# Altium schematic symbol library Schlib1.SchLib: 19 symbols
Pins are listed as number, name and electrical type; pins without a type are passive.

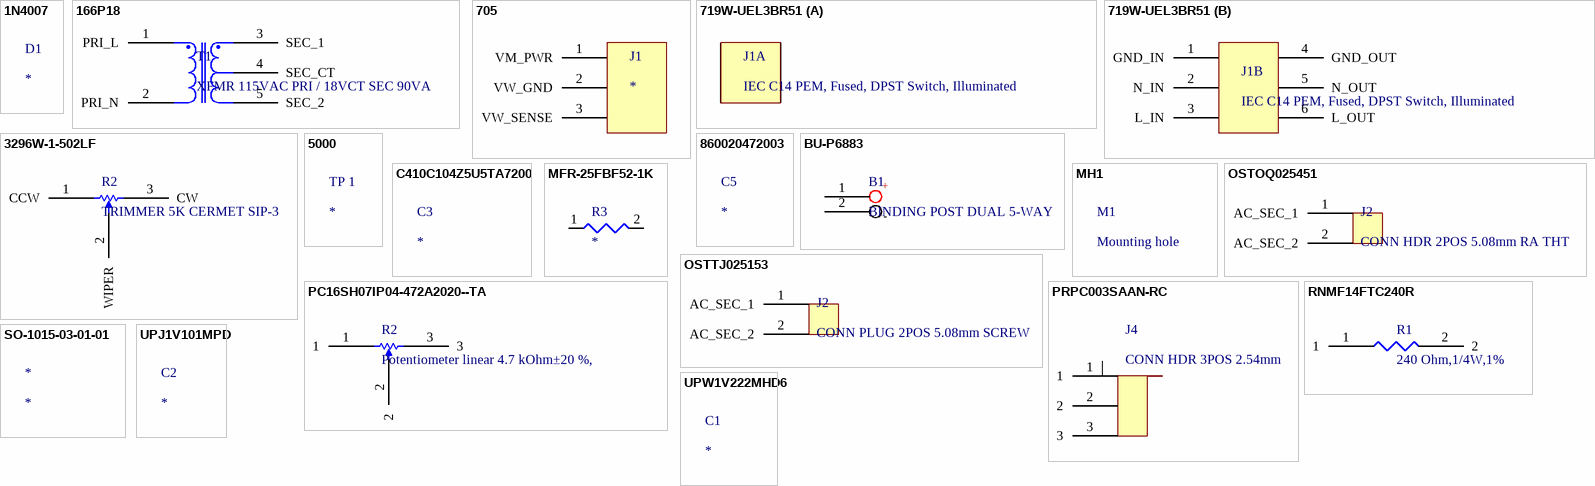
[diagram p0: symbols 1N4007 to UPW1V222MHD6]

## 1N4007
designator D1
Rectifier Diode, 1 Phase, 1 Element, 1A, 1000V V(RRM), Silicon, DO-204AC; Manufacturer: Diotec; Manufacturer Part Number: 1N4007; Manufacturer Lifecycle Status: ACTIVE; Value: 15pF; Element Configuration: Single; Forward Voltage: 1V; Max Forward Surge Current (Ifsm): 30A; Max Junction Temperature (Tj): 175°C; Max Repetitive Reverse Voltage (Vrrm): 1kV; Max Surge Current: 27A; Number of Elements: 1; Peak Reverse Current: 5µA; Polarity: Standard; Reverse Recovery Time: 1.5µs; Supplier: Arrow Electronics; Supplier Part Number: 1N4007; RoHS: Compliant; Category: Rectifier Diodes; Stock: 475000; Pricing: 5000=0.026, 10000=0.0184, 15000=0.0182, 25000=0.0153, 35000=0.0152, 50000=0.0143 (USD); Case/Package: Axial; Export Control Classification Number (ECCN) Code: EAR99; Forward Current: 1A; Height: 2.8mm; Harmonized Tariff Schedule (HTS) Code: 85411000; Introduction Date: 1988-05-01; Lifecycle Status: Production; Max Operating Temperature: 175°C; Max Output current: 1A; Min Operating Temperature: -50°C; Mounting Technology: Axial; Pins: 2; Number of Terminals: 2; Peak Non-Repetitive Surge Current: 30A; REACH SVHC: Unknown; Reverse Standoff Voltage: 1kV; Reverse Voltage: 1kV; Weight: 300mg; ComponentLink1URL: https://datasheet.octopart.com:443/1N4007-Diotec-datasheet-180572013.pdf?src-supplier=IHS; ComponentLink1Description: https://datasheet.octopart.com:443/1N4007-Diotec-datasheet-180572013.pdf?src-supplier=IHS; ComponentLink2URL: https://datasheet.octopart.com:443/1N4007-Diotec-datasheet-180725457.pdf?src-supplier=IHS; ComponentLink2Description: https://datasheet.octopart.com:443/1N4007-Diotec-datasheet-180725457.pdf?src-supplier=IHS; ComponentLink3URL: https://datasheet.octopart.com:443/1N4007-Diotec-datasheet-182232370.pdf?src-supplier=IHS; ComponentLink3Description: https://datasheet.octopart.com:443/1N4007-Diotec-datasheet-182232370.pdf?src-supplier=IHS; ComponentLink4URL: https://datasheet.octopart.com:443/1N4007-Diotec-datasheet-180570705.pdf?src-supplier=IHS; ComponentLink4Description: https://datasheet.octopart.com:443/1N4007-Diotec-datasheet-180570705.pdf?src-supplier=IHS; ComponentLink5URL: https://datasheet.octopart.com:443/1N4007-Diotec-datasheet-62346875.pdf?src-supplier=Burklin+Elektronik; ComponentLink5Description: https://datasheet.octopart.com:443/1N4007-Diotec-datasheet-62346875.pdf?src-supplier=Burklin+Elektronik; ComponentLink6URL: https://datasheet.octopart.com:443/1N4007-Diotec-datasheet-168809440.pdf?src-supplier=Diotec; ComponentLink6Description: https://datasheet.octopart.com:443/1N4007-Diotec-datasheet-168809440.pdf?src-supplier=Diotec; ComponentLink7URL: https://datasheet.octopart.com:443/1N4007-Diotec-datasheet-114842631.pdf?src-supplier=SOS+electronic; ComponentLink7Description: https://datasheet.octopart.com:443/1N4007-Diotec-datasheet-114842631.pdf?src-supplier=SOS+electronic; ComponentLink8URL: https://datasheet.octopart.com:443/1N4007-Galaxy-Semiconductor-datasheet-20771558.pdf?src-supplier=TME; ComponentLink8Description: https://datasheet.octopart.com:443/1N4007-Galaxy-Semiconductor-datasheet-20771558.pdf?src-supplier=TME; ComponentLink9URL: https://datasheet.octopart.com:443/1N4007-Diotec-datasheet-118605333.pdf?src-supplier=TME; ComponentLink9Description: https://datasheet.octopart.com:443/1N4007-Diotec-datasheet-118605333.pdf?src-supplier=TME; ComponentLink10URL: https://datasheet.octopart.com:443/1N4007-Diotec-datasheet-159114366.pdf?src-supplier=TME; ComponentLink10Description: https://datasheet.octopart.com:443/1N4007-Diotec-datasheet-159114366.pdf?src-supplier=TME; ComponentLink11URL: https://datasheet.octopart.com:443/1N4007-Diotec-datasheet-189099566.pdf?src-supplier=Master+Electronics; ComponentLink11Description: https://datasheet.octopart.com:443/1N4007-Diotec-datasheet-189099566.pdf?src-supplier=Master+Electronics

## 166P18
designator T1, comment XFMR 115VAC PRI / 18VCT SEC 90VA
Power transformer, 115VAC primary, 18V center-tapped secondary, 5A, 90VA, chassis mount, wire leads; Manufacturer: Hammond; Manufacturer Part Number: 166P18; Approvals: CSA, UL; Frequency: 60Hz; Isolation Voltage: 2000Vrms; Max Power Dissipation: 90W; Nominal Supply Voltage: 115V; Primary Winding(s): Single; Supplier: Newark; Supplier Part Number: 166P18; RoHS: Compliant; Category: Transformers; Stock: 34; Pricing: 1=44.28, 5=42.04, 10=39.81, 25=37.85, 50=36.92, 100=33.62, 250=32.97 (USD); Current Rating: 5A; Height: 66.802mm; Height - Seated (Max): 66.8mm; Length: 102.362mm; Lifecycle Status: Production; Max Operating Temperature: 130°C; Max Output current: 5A; Min Operating Temperature: 0°C; Mounting Technology: Chassis Mount; Output Current: 5A; Output Voltage: 18V; Packaging: Bulk; Power Rating: 90W; REACH SVHC: Yes; Schedule B: 8504314035; Secondary Winding(s): Single; Termination: Wire Leads; Width: 63.5mm; ComponentLink1URL: https://datasheet.octopart.com:443/166P18-Hammond-datasheet-179918239.pdf?src-supplier=IHS; ComponentLink1Description: https://datasheet.octopart.com:443/166P18-Hammond-datasheet-179918239.pdf?src-supplier=IHS; ComponentLink2URL: https://datasheet.octopart.com:443/166P18-Hammond-datasheet-8450255.pdf?src-supplier=Master+Electronics; ComponentLink2Description: https://datasheet.octopart.com:443/166P18-Hammond-datasheet-8450255.pdf?src-supplier=Master+Electronics; ComponentLink3URL: https://datasheet.octopart.com:443/166P18-Hammond-datasheet-78727889.pdf?src-supplier=Newark; ComponentLink3Description: https://datasheet.octopart.com:443/166P18-Hammond-datasheet-78727889.pdf?src-supplier=Newark; ComponentLink4URL: https://datasheet.octopart.com:443/166P18-Hammond-datasheet-1636.pdf?src-supplier=DigiKey; ComponentLink4Description: https://datasheet.octopart.com:443/166P18-Hammond-datasheet-1636.pdf?src-supplier=DigiKey; ComponentLink5URL: https://datasheet.octopart.com:443/166P18-Hammond-datasheet-154734928.pdf?src-supplier=Electro+Sonic; ComponentLink5Description: https://datasheet.octopart.com:443/166P18-Hammond-datasheet-154734928.pdf?src-supplier=Electro+Sonic; ComponentLink6URL: https://datasheet.octopart.com:443/166P18-Hammond-datasheet-9571880.pdf?src-supplier=RS+(Formerly+Allied+Electronics); ComponentLink6Description: https://datasheet.octopart.com:443/166P18-Hammond-datasheet-9571880.pdf?src-supplier=RS+(Formerly+Allied+Electronics); ComponentLink7URL: https://datasheet.octopart.com:443/166P18-Hammond-datasheet-16756.pdf?src-supplier=RS+(Formerly+Allied+Electronics); ComponentLink7Description: https://datasheet.octopart.com:443/166P18-Hammond-datasheet-16756.pdf?src-supplier=RS+(Formerly+Allied+Electronics); ComponentLink8URL: https://datasheet.octopart.com:443/166P18-Hammond-datasheet-17018915.pdf?src-supplier=Factory+Futures; ComponentLink8Description: https://datasheet.octopart.com:443/166P18-Hammond-datasheet-17018915.pdf?src-supplier=Factory+Futures; ComponentLink9URL: http://sigma.octopart.com:80/conflict_mineral_statement/Hammond-company-48.pdf?src-supplier=Compliance+Statements; ComponentLink9Description: http://sigma.octopart.com:80/conflict_mineral_statement/Hammond-company-48.pdf?src-supplier=Compliance+Statements
pins: 1 PRI_L, 2 PRI_N, 3 SEC_1, 4 SEC_CT, 5 SEC_2

## 705
designator J1
Mini 3-wire Volt Meter, 4.5V to 28V DC power, 0V to 99.9V DC measurement; Manufacturer: Adafruit Industries; Manufacturer Part Number: 705; Number Of Characters Per Row: 3; Supplier: Newark; Supplier Part Number: 705; RoHS: Compliant; Category: Panel Meters; Stock: 34; Pricing: 1=7.95 (USD); Height: 19.05mm; Length: 69.85mm; Mounting Technology: Chassis Mount; Termination: Wire Leads; Weight: 5.443108g; Width: 63.5mm
pins: 1 VM_PWR, 2 VW_GND, 3 VW_SENSE

## 719W-UEL3BR51
designator J1, comment IEC C14 PEM, Fused, DPST Switch, Illuminated
Mains Power Connector; Manufacturer: Qualtek; Manufacturer Part Number: 719W-UEL3BR51; Supplier: DigiKey; Supplier Part Number: 189-719W-UEL3BR51-ND; RoHS: Compliant; Category: Power Connectors; Stock: 363; Pricing: 1=7.66, 10=6.506, 30=6.02, 50=5.8068, 100=5.5296, 250=5.18348, 500=4.93622, 1000=4.70083 (USD); Export Control Classification Number (ECCN) Code: EAR99; Harmonized Tariff Schedule (HTS) Code: 8536.69.40.30; Introduction Date: 2024-04-05; Lifecycle Status: Production
part B pins: 1 GND_IN, 2 N_IN, 3 L_IN, 4 GND_OUT, 5 N_OUT, 6 L_OUT

## 3296W-1-502LF
designator R2, comment TRIMMER 5K CERMET SIP-3
Cermet trimmer potentiometer, 25 turns, 5 kΩ, 0.5 W, THT, on top, 3296W-1-502LF; Manufacturer: Bourns; Insulation Resistance: 1GΩ; Lead Diameter: 510µm; Lead Length: 6.4mm; Max Power Dissipation: 500mW; Number of Turns: 25; Value: 5kΩ; Temperature Coefficient: 100ppm/°C; Tolerance: 10%; Voltage Rating (AC): 300V; Supplier: Arrow Electronics; Supplier Part Number: 3296W-1-502LF; Manufacturer Part Number: 3296W-1-502LF; RoHS: Compliant; Category: Variable Resistors and Potentiometers; Stock: 198; Pricing: 2=1.9574, 10=1.6701, 25=1.482, 50=1.4672, 100=1.4 (USD); China RoHS: Non-Compliant; Color: Blue; Composition: Cermet; Contact Plating: Tin; Depth: 4.83mm; Export Control Classification Number (ECCN) Code: EAR99; Height: 10.03mm; Harmonized Tariff Schedule (HTS) Code: 8533.40.80.50; Introduction Date: 2004-09-13; Lead Free: Lead Free; Length: 9.53mm; Lifecycle Status: Production; Max Operating Temperature: 125°C; Military Standard: Not; Min Operating Temperature: -55°C; Mounting Technology: PCB, Panel, Through Hole; Number of Terminals: 3; Power Rating: 500mW; Radiation Hardening: No; REACH SVHC: No; Schedule B: 8533400080, 8533400080|8533400080|8533400080|8533400080|8533400080; Taper: Linear; Termination: Pin; Voltage Rating (DC): 300V; Weight: 850.485694mg; Width: 4.83mm; Working Voltage: 300V; ComponentLink1URL: https://datasheet.octopart.com:443/3296W-1-502LF-Bourns-datasheet-154325949.pdf?src-supplier=Newark; ComponentLink1Description: https://datasheet.octopart.com:443/3296W-1-502LF-Bourns-datasheet-154325949.pdf?src-supplier=Newark; ComponentLink2URL: https://datasheet.octopart.com:443/3296W-1-502LF-Bourns-datasheet-62345832.pdf?src-supplier=Newark; ComponentLink2Description: https://datasheet.octopart.com:443/3296W-1-502LF-Bourns-datasheet-62345832.pdf?src-supplier=Newark; ComponentLink3URL: https://datasheet.octopart.com:443/3296W-1-502LF-Bourns-datasheet-134530165.pdf?src-supplier=Upverter; ComponentLink3Description: https://datasheet.octopart.com:443/3296W-1-502LF-Bourns-datasheet-134530165.pdf?src-supplier=Upverter; ComponentLink4URL: https://datasheet.octopart.com:443/3296W-1-502LF-Bourns-datasheet-8754025.pdf?src-supplier=Burklin+Elektronik; ComponentLink4Description: https://datasheet.octopart.com:443/3296W-1-502LF-Bourns-datasheet-8754025.pdf?src-supplier=Burklin+Elektronik; ComponentLink5URL: https://datasheet.octopart.com:443/3296W-1-502LF-Bourns-datasheet-170576125.pdf?src-supplier=Burklin+Elektronik; ComponentLink5Description: https://datasheet.octopart.com:443/3296W-1-502LF-Bourns-datasheet-170576125.pdf?src-supplier=Burklin+Elektronik; ComponentLink6URL: https://datasheet.octopart.com:443/3296W-1-502LF-Bourns-datasheet-9257.pdf?src-supplier=Factory+Futures; ComponentLink6Description: https://datasheet.octopart.com:443/3296W-1-502LF-Bourns-datasheet-9257.pdf?src-supplier=Factory+Futures; ComponentLink7URL: https://datasheet.octopart.com:443/3296W-1-502LF-Bourns-datasheet-8458046.pdf?src-supplier=Factory+Futures; ComponentLink7Description: https://datasheet.octopart.com:443/3296W-1-502LF-Bourns-datasheet-8458046.pdf?src-supplier=Factory+Futures; ComponentLink8URL: https://datasheet.octopart.com:443/3296W-1-502LF-Bourns-datasheet-154729564.pdf?src-supplier=Electro+Sonic; ComponentLink8Description: https://datasheet.octopart.com:443/3296W-1-502LF-Bourns-datasheet-154729564.pdf?src-supplier=Electro+Sonic; ComponentLink9URL: https://datasheet.octopart.com:443/3296W-1-502LF-Bourns-datasheet-25360155.pdf?src-supplier=RS+(Formerly+Allied+Electronics); ComponentLink9Description: https://datasheet.octopart.com:443/3296W-1-502LF-Bourns-datasheet-25360155.pdf?src-supplier=RS+(Formerly+Allied+Electronics); ComponentLink10URL: https://datasheet.octopart.com:443/3296W-1-502LF-Bourns-datasheet-47378.pdf?src-supplier=RS+(Formerly+Allied+Electronics); ComponentLink10Description: https://datasheet.octopart.com:443/3296W-1-502LF-Bourns-datasheet-47378.pdf?src-supplier=RS+(Formerly+Allied+Electronics); ComponentLink11URL: https://datasheet.octopart.com:443/3296W-1-502LF-Bourns-datasheet-8359740.pdf?src-supplier=_legacy+Avnet; ComponentLink11Description: https://datasheet.octopart.com:443/3296W-1-502LF-Bourns-datasheet-8359740.pdf?src-supplier=_legacy+Avnet; ComponentLink12URL: https://datasheet.octopart.com:443/3296W-1-502LF-Bourns-datasheet-14175298.pdf?src-supplier=iiiC; ComponentLink12Description: https://datasheet.octopart.com:443/3296W-1-502LF-Bourns-datasheet-14175298.pdf?src-supplier=iiiC; ComponentLink13URL: https://datasheet.octopart.com:443/3296W-1-502LF-Bourns-datasheet-7276830.pdf?src-supplier=Jameco+(USA); ComponentLink13Description: https://datasheet.octopart.com:443/3296W-1-502LF-Bourns-datasheet-7276830.pdf?src-supplier=Jameco+(USA); ComponentLink14URL: https://datasheet.octopart.com:443/3296W-1-502LF-Bourns-datasheet-6152.pdf?src-supplier=Farnell; ComponentLink14Description: https://datasheet.octopart.com:443/3296W-1-502LF-Bourns-datasheet-6152.pdf?src-supplier=Farnell; ComponentLink15URL: https://datasheet.octopart.com:443/3296W-1-502LF-Bourns-datasheet-528316.pdf?src-supplier=Farnell; ComponentLink15Description: https://datasheet.octopart.com:443/3296W-1-502LF-Bourns-datasheet-528316.pdf?src-supplier=Farnell; ComponentLink16URL: http://sigma.octopart.com:80/conflict_mineral_statement/Bourns-company-36.pdf?src-supplier=Compliance+Statements; ComponentLink16Description: http://sigma.octopart.com:80/conflict_mineral_statement/Bourns-company-36.pdf?src-supplier=Compliance+Statements
pins: 1 CCW, 2 WIPER, 3 CW

## 5000
designator TP 1
Test Point, Mini, Thm, Pc, .300 L, .100 Od, Heat Resistant Nylon 46, Red; Manufacturer: Keystone; Manufacturer Part Number: 5000; Body Material: Bronze, PBT; Hole Diameter: 1.6mm; Inside Diameter: 1.27mm; Insulation: Insulated; Number of Contacts: 1; Outside Diameter: 2.54mm; Plating: Silver; Supplier: Future Electronics; Supplier Part Number: 5000; RoHS: Compliant; Category: Test Points; Stock: 87048; Pricing: 150=0.147, 300=0.145, 750=0.143, 1500=0.141, 3000=0.136 (USD); Color: Red; Contact Material: Silver; Contact Plating: Silver; Flammability Rating: UL94 V-0; Height: 4.72mm; Housing Color: Red; Lead Free: Lead Free; Length: 7.62mm; Lifecycle Status: Production; Material: Bronze, Nylon, Silver; Mounting Technology: PCB, Through Hole; Number of Ports: 1; Orientation: Straight; Packaging: Bulk; REACH SVHC: Yes; ComponentLink1URL: https://datasheet.octopart.com:443/5000-Keystone-datasheet-138896739.pdf?src-supplier=Upverter; ComponentLink1Description: https://datasheet.octopart.com:443/5000-Keystone-datasheet-138896739.pdf?src-supplier=Upverter; ComponentLink2URL: https://datasheet.octopart.com:443/5000-Keystone-datasheet-15716159.pdf?src-supplier=IHS; ComponentLink2Description: https://datasheet.octopart.com:443/5000-Keystone-datasheet-15716159.pdf?src-supplier=IHS; ComponentLink3URL: https://datasheet.octopart.com:443/5000-Keystone-datasheet-9590016.pdf?src-supplier=Sager+Electronics; ComponentLink3Description: https://datasheet.octopart.com:443/5000-Keystone-datasheet-9590016.pdf?src-supplier=Sager+Electronics; ComponentLink4URL: https://datasheet.octopart.com:443/5000-Keystone-datasheet-23674.pdf?src-supplier=SOS+electronic; ComponentLink4Description: https://datasheet.octopart.com:443/5000-Keystone-datasheet-23674.pdf?src-supplier=SOS+electronic; ComponentLink5URL: https://datasheet.octopart.com:443/5000-Keystone-datasheet-549598.pdf?src-supplier=Farnell; ComponentLink5Description: https://datasheet.octopart.com:443/5000-Keystone-datasheet-549598.pdf?src-supplier=Farnell; ComponentLink6URL: https://datasheet.octopart.com:443/5000-Keystone-datasheet-60278094.pdf?src-supplier=Future+Electronics; ComponentLink6Description: https://datasheet.octopart.com:443/5000-Keystone-datasheet-60278094.pdf?src-supplier=Future+Electronics; ComponentLink7URL: https://datasheet.octopart.com:443/5000-Keystone-datasheet-542585.pdf?src-supplier=Future+Electronics; ComponentLink7Description: https://datasheet.octopart.com:443/5000-Keystone-datasheet-542585.pdf?src-supplier=Future+Electronics; ComponentLink8URL: https://datasheet.octopart.com:443/5000-Keystone-datasheet-10925273.pdf?src-supplier=Factory+Futures; ComponentLink8Description: https://datasheet.octopart.com:443/5000-Keystone-datasheet-10925273.pdf?src-supplier=Factory+Futures; ComponentLink9URL: https://datasheet.octopart.com:443/5000-Keystone-datasheet-15983577.pdf?src-supplier=element14+APAC; ComponentLink9Description: https://datasheet.octopart.com:443/5000-Keystone-datasheet-15983577.pdf?src-supplier=element14+APAC; ComponentLink10URL: https://datasheet.octopart.com:443/5000-Keystone-datasheet-6528.pdf?src-supplier=RS+(Formerly+Allied+Electronics); ComponentLink10Description: https://datasheet.octopart.com:443/5000-Keystone-datasheet-6528.pdf?src-supplier=RS+(Formerly+Allied+Electronics)

## 860020472003
designator C5
WCAP-ATG5 Aluminum Electrolytic Capacitors; Manufacturer: Wurth Elektronik; Manufacturer Part Number: 860020472003; Manufacturer Lifecycle Status: ACTIVE; Value: 10µF; Leakage Current: 3µA; Life (Hours): 2000hours; Pitch: 2mm; Polarity: Polar; Ripple Current: 38mA; Tolerance: 20%; Voltage Rating: 25V; YEOL: 1 = Estimated lifetime > 10 years; Supplier: Newark; Supplier Part Number: 860020472003; RoHS: Compliant; Category: Aluminum Electrolytic Capacitors; Stock: 1675; Pricing: 5=0.147, 10=0.14, 25=0.132, 50=0.123, 100=0.11, 500=0.088, 1000=0.086 (USD); Case/Package: Radial; Diameter: 5mm; Height - Seated (Max): 12.4968mm; Lead Pitch: 2.0066mm; Length: 11mm; Lifecycle Status: Production; Max Operating Temperature: 105°C; Min Operating Temperature: -40°C; Mounting Technology: Through Hole; Packaging: Tape & Box (TB); ComponentLink1URL: https://datasheet.octopart.com:443/860020472003-W%C3%BCrth-Elektronik-datasheet-111089628.pdf?src-supplier=Newark; ComponentLink1Description: https://datasheet.octopart.com:443/860020472003-W%C3%BCrth-Elektronik-datasheet-111089628.pdf?src-supplier=Newark

## BU-P6883
designator B1, comment BINDING POST DUAL 5-WAY
pins: 1 V_OUT_POS, 2 V_OUT_NEG
text: +; -

## C410C104Z5U5TA7200
designator C3
Multilayer Ceramic Capacitor, 0.1 uF, 50 V, -20%, +80%, Z5U, Axial Leaded; Manufacturer: Yageo Group; Manufacturer Part Number: C410C104Z5U5TA7200; Value: 100nF; Dissipation Factor: 4%; Lead Diameter: 510µm; Tolerance: 80%; Voltage Rating: 50V; Supplier: DigiKey; Supplier Part Number: 399-C410C104Z5U5TA7200CT-ND; RoHS: Compliant; Category: Ceramic Capacitors; Stock: 142749; Pricing: 1=0.26, 10=0.151, 50=0.1092, 100=0.0963, 500=0.0745, 1000=0.06779, 2500=0.06072 (USD); Case/Package: Dipped; China RoHS: Compliant; Diameter: 2.41mm; Dielectric: Z5U; Dielectric Material: Ceramic; Export Control Classification Number (ECCN) Code: EAR99; Harmonized Tariff Schedule (HTS) Code: 8532.24.00.40; Introduction Date: 2006-05-17; Length: 4.32mm; Lifecycle Status: Production; Max Operating Temperature: 85°C; Min Operating Temperature: 10°C; Mounting Technology: Through Hole; Number of Terminals: 2; Radiation Hardening: No; REACH SVHC: Yes; Termination: Axial; Voltage Rating (DC): 50V; ComponentLink1URL: https://datasheet.octopart.com:443/C410C104Z5U5TA7200-KEMET-datasheet-182049697.pdf?src-supplier=IHS; ComponentLink1Description: https://datasheet.octopart.com:443/C410C104Z5U5TA7200-KEMET-datasheet-182049697.pdf?src-supplier=IHS; ComponentLink2URL: https://datasheet.octopart.com:443/C410C104Z5U5TA7200-KEMET-datasheet-7833651.pdf?src-supplier=Electro+Sonic; ComponentLink2Description: https://datasheet.octopart.com:443/C410C104Z5U5TA7200-KEMET-datasheet-7833651.pdf?src-supplier=Electro+Sonic
footprint C410C104Z5U5TA7200 (0.1 µF -20%, +80% 50V Ceramic Capacitor Z5U Axialpp)

## MFR-25FBF52-1K
designator R3
RES 1K OHM 1% 1/4W AXIAL / 1 kOhms ±1% 0.25W, 1/4W Through Hole Resistor Axial Metal Film; Manufacturer: Yageo Group; Manufacturer Part Number: MFR-25FBF52-1K; Lead Diameter: 550µm; Lead Length: 28mm; Max Power Dissipation: 250mW; Value: 1kΩ; Temperature Coefficient: 100ppm/°C; Voltage Rating: 250V; Voltage Rating (DC): 200V; Supplier: Avnet; Supplier Part Number: MFR-25FBF52-1K; RoHS: Compliant; Category: Through-Hole Resistors; Stock: 9577; Pricing: 1=0.098, 2=0.03803, 4=0.03783, 8=0.03764, 16=0.02496 (USD); Case/Package: Axial; China RoHS: Compliant; Composition: Metal Film; Country of Origin: Mainland China; Diameter: 2.4mm; Export Control Classification Number (ECCN) Code: EAR99; Harmonized Tariff Schedule (HTS) Code: 8533.21.00.90; Introduction Date: 2010-12-31; Lead Free: Lead Free; Length: 6.3mm; Lifecycle Status: Production; Max Operating Temperature: 155°C; Min Operating Temperature: -55°C; Mounting Technology: Through Hole; Pins: 2; Number of Terminals: 2; Number of Terminations: 2; Packaging: Bulk; Power Rating: 250mW; Ratings: AEC-Q200; REACH SVHC: Yes; Schedule B: 8533210090, 8533210090|8533210090|8533210090|8533210090|8533210090|8533210090|8533210090|8533210090|8533210090|8533210090|8533210090|8533210090|8533210090|8533210090|8533210090|8533210090|8533210090|8533210090|8533210090|8533210090|8533210090|8533210090|8533210090|85; Termination: Axial; Tolerance: 1%; Width: 6.3mm; Working Voltage: 250V; ComponentLink1URL: https://datasheet.octopart.com:443/MFR-25FBF52-1K-Yageo-datasheet-175665672.pdf?src-supplier=element14+APAC; ComponentLink1Description: https://datasheet.octopart.com:443/MFR-25FBF52-1K-Yageo-datasheet-175665672.pdf?src-supplier=element14+APAC; ComponentLink2URL: https://datasheet.octopart.com/MFR-25FBF52-1K-Yageo-datasheet-28066692.pdf; ComponentLink2Description: https://datasheet.octopart.com/MFR-25FBF52-1K-Yageo-datasheet-28066692.pdf; ComponentLink3URL: https://datasheet.octopart.com:443/MFR-25FBF52-1K-Yageo-datasheet-12510115.pdf?src-supplier=Upverter; ComponentLink3Description: https://datasheet.octopart.com:443/MFR-25FBF52-1K-Yageo-datasheet-12510115.pdf?src-supplier=Upverter; ComponentLink4URL: https://datasheet.octopart.com:443/MFR-25FBF52-1K-Yageo-Group-datasheet-178445897.pdf?src-supplier=Future+Electronics; ComponentLink4Description: https://datasheet.octopart.com:443/MFR-25FBF52-1K-Yageo-Group-datasheet-178445897.pdf?src-supplier=Future+Electronics; ComponentLink5URL: https://datasheet.octopart.com:443/MFR-25FBF52-1K-Yageo-datasheet-165493774.pdf?src-supplier=Future+Electronics; ComponentLink5Description: https://datasheet.octopart.com:443/MFR-25FBF52-1K-Yageo-datasheet-165493774.pdf?src-supplier=Future+Electronics; ComponentLink6URL: https://datasheet.octopart.com:443/MFR-25FBF52-1K-Yageo-datasheet-155367622.pdf?src-supplier=Future+Electronics; ComponentLink6Description: https://datasheet.octopart.com:443/MFR-25FBF52-1K-Yageo-datasheet-155367622.pdf?src-supplier=Future+Electronics; ComponentLink7URL: https://datasheet.octopart.com:443/MFR-25FBF52-1K-Yageo-datasheet-17233670.pdf?src-supplier=Future+Electronics; ComponentLink7Description: https://datasheet.octopart.com:443/MFR-25FBF52-1K-Yageo-datasheet-17233670.pdf?src-supplier=Future+Electronics; ComponentLink8URL: https://datasheet.octopart.com:443/MFR-25FBF52-1K-Yageo-datasheet-137700554.pdf?src-supplier=Future+Electronics; ComponentLink8Description: https://datasheet.octopart.com:443/MFR-25FBF52-1K-Yageo-datasheet-137700554.pdf?src-supplier=Future+Electronics; ComponentLink9URL: http://sigma.octopart.com:80/conflict_mineral_statement/Yageo-company-3.pdf?src-supplier=Compliance+Statements; ComponentLink9Description: http://sigma.octopart.com:80/conflict_mineral_statement/Yageo-company-3.pdf?src-supplier=Compliance+Statements; ComponentLink10URL: http://sigma.octopart.com:80/rohs_statement/Yageo-company-2.pdf?src-supplier=Compliance+Statements; ComponentLink10Description: http://sigma.octopart.com:80/rohs_statement/Yageo-company-2.pdf?src-supplier=Compliance+Statements
footprint pp (240 Ohm resistor, 1/4W, 1%)
pins: 1, 2

## MH1
designator M1, comment Mounting hole
Mounting hole, 114mil diameter

## OSTOQ025451
designator J2, comment CONN HDR 2POS 5.08mm RA THT
2-position, 5.08mm pitch, shrouded, right-angle, through-hole header
footprint OSTOQ025451 (Header)
pins: 1 AC_SEC_1, 2 AC_SEC_2

## OSTTJ025153
designator J2, comment CONN PLUG 2POS 5.08mm SCREW
Terminal block plug, female sockets, 5.08mm pitch, free-hanging/cable-mount, screw termination
pins: 1 AC_SEC_1, 2 AC_SEC_2

## PC16SH07IP04-472A2020--TA
designator R2, comment Potentiometer linear 4.7 kOhm±20 %,
Potentiometer linear 4.7 kOhm±20 %, PC16SH07IP04-472A2020--TA, Piher; Value: 4.7kΩ; Tolerance: 20%; Supplier: Newark; Supplier Part Number: PC16SH-07IP04-472A2020-TA; Manufacturer: Piher; Manufacturer Part Number: PC16SH07IP04-472A2020--TA; RoHS: Compliant; Category: Variable Resistors and Potentiometers; Stock: 2313; Pricing: 1=2.71, 10=2.37, 25=2.26, 50=2.13, 100=1.96, 250=1.91, 500=1.8, 1000=1.6 (USD); Composition: Carbon; Mounting Technology: Through Hole
footprint PC16SH07IP04-472A2020--TA (POT 4.7K OHM 1/5W CARBON LINEAR)
pins: 1, 2, 3

## PRPC003SAAN-RC
designator J4, comment CONN HDR 3POS 2.54mm
Header, 3-position, 0.1in pitch, straight, TH
footprint Connector, header vertical 3-pos 2.54mm (Connector, header vertical 3-pos 2.54mm, PRPC003SAAN-RC, Sullins Connector Solutions)
pins: 1, 2, 3

## RNMF14FTC240R
designator R1, comment 240 Ohm,1/4W,1%
Through Hole Resistor 240 Ohm,1/4W,1%, Axial
footprint pp (240 Ohm resistor, 1/4W, 1%)
pins: 1, 2

## SO-1015-03-01-01
designator *
Samtec Hexagonal isolation column, 10.15mmlong, Apr-40Thread, External thread/internal thread; Manufacturer Part Number: SO-1015-03-01-01; Manufacturer Lifecycle Status: PRODUCTION; Supplier: Newark; Supplier Part Number: SO-1015-03-01-01; Manufacturer: Samtec; RoHS: Compliant; Category: Board to Board Connectors; Pricing: 1=3.47, 50=2.83, 100=2.4, 500=2.14, 1000=1.7, 2000=1.56, 5000=1.27, 10000=0.977 (USD); Height: 10mm; Lifecycle Status: Production; ComponentLink1URL: https://datasheet.octopart.com:443/SO-1015-03-01-01-Samtec-datasheet-151555643.pdf?src-supplier=Upverter; ComponentLink1Description: https://datasheet.octopart.com:443/SO-1015-03-01-01-Samtec-datasheet-151555643.pdf?src-supplier=Upverter; ComponentLink2URL: https://datasheet.octopart.com:443/SO-1015-03-01-01-Samtec-datasheet-97282963.pdf?src-supplier=Farnell; ComponentLink2Description: https://datasheet.octopart.com:443/SO-1015-03-01-01-Samtec-datasheet-97282963.pdf?src-supplier=Farnell; ComponentLink3URL: https://sigma.octopart.com:443/97282964/technical_drawing/Samtec-SO-1015-03-01-01.pdf?src-supplier=Samtec; ComponentLink3Description: https://sigma.octopart.com:443/97282964/technical_drawing/Samtec-SO-1015-03-01-01.pdf?src-supplier=Samtec; ComponentLink4URL: https://datasheet.octopart.com:443/SO-1015-03-01-01-Samtec-datasheet-118892790.pdf?src-supplier=Electro+Sonic; ComponentLink4Description: https://datasheet.octopart.com:443/SO-1015-03-01-01-Samtec-datasheet-118892790.pdf?src-supplier=Electro+Sonic; ComponentLink5URL: https://datasheet.octopart.com:443/SO-1015-03-01-01-Samtec-datasheet-86973422.pdf?src-supplier=Sager+Electronics; ComponentLink5Description: https://datasheet.octopart.com:443/SO-1015-03-01-01-Samtec-datasheet-86973422.pdf?src-supplier=Sager+Electronics; ComponentLink6URL: https://datasheet.octopart.com:443/SO-1015-03-01-01-Samtec-datasheet-151378196.pdf?src-supplier=Sager+Electronics; ComponentLink6Description: https://datasheet.octopart.com:443/SO-1015-03-01-01-Samtec-datasheet-151378196.pdf?src-supplier=Sager+Electronics; ComponentLink7URL: https://datasheet.octopart.com:443/SO-1015-03-01-01-Samtec-datasheet-156963117.pdf?src-supplier=JRH+Electronics; ComponentLink7Description: https://datasheet.octopart.com:443/SO-1015-03-01-01-Samtec-datasheet-156963117.pdf?src-supplier=JRH+Electronics

## UPJ1V101MPD
designator C2
Radial Can ALUMINUM ELECTROLYTIC CAPACITOR UPJ 35V 100muF 卤20% 0.315Dia 8.00mm; Manufacturer: Nichicon; Manufacturer Part Number: UPJ1V101MPD; Value: 100µF; Dielectric Material: Aluminium; Dissipation Factor: 0.12%; Impedance: 260mΩ; Lead Diameter: 600µm; Leakage Current: 105µA; Life (Hours): 3000hours; Polarity: Polar; Ripple Current: 305mA; Tolerance: 20%; Supplier: Future Electronics; Supplier Part Number: UPJ1V101MPD; RoHS: Compliant; Category: Aluminum Electrolytic Capacitors; Stock: 7800; Pricing: 400=0.0897, 1000=0.0876, 4000=0.0846, 6000=0.0837, 15000=0.0804 (USD); Case/Package: Radial; China RoHS: Compliant; Country of Origin: Japan; Diameter: 8mm; Export Control Classification Number (ECCN) Code: EAR99; Features: General Purpose; Height: 11.5mm; Height - Seated (Max): 8.001mm; Harmonized Tariff Schedule (HTS) Code: 8532.22.00; Introduction Date: 2003-09-22; Lead Free: Lead Free; Lead Pitch: 3.5mm; Length: 11.5mm; Lifecycle Status: Production; Max Operating Temperature: 105°C; Min Operating Temperature: -55°C; Mounting Technology: Through Hole; Pins: 2; Number of Terminals: 2; Packaging: Bulk; Radiation Hardening: No; REACH SVHC: No; Ripple Current (AC): 305mA; Schedule B: 8532220020, 8532220020|8532220020, 8532220020|8532220020|8532220020, 8532220020|8532220020|8532220020|8532220020; Terminal Pitch: 3.5mm; Termination: Radial; Voltage Rating: 35V; Voltage Rating (DC): 35V; ComponentLink1URL: https://datasheet.octopart.com:443/UPJ1V101MPD-Nichicon-datasheet-169250479.pdf?src-supplier=Future+Electronics; ComponentLink1Description: https://datasheet.octopart.com:443/UPJ1V101MPD-Nichicon-datasheet-169250479.pdf?src-supplier=Future+Electronics; ComponentLink2URL: https://datasheet.octopart.com:443/UPJ1V101MPD-Nichicon-datasheet-8399434.pdf?src-supplier=Future+Electronics; ComponentLink2Description: https://datasheet.octopart.com:443/UPJ1V101MPD-Nichicon-datasheet-8399434.pdf?src-supplier=Future+Electronics; ComponentLink3URL: https://datasheet.octopart.com:443/UPJ1V101MPD-Nichicon-datasheet-5402576.pdf?src-supplier=Future+Electronics; ComponentLink3Description: https://datasheet.octopart.com:443/UPJ1V101MPD-Nichicon-datasheet-5402576.pdf?src-supplier=Future+Electronics; ComponentLink4URL: https://datasheet.octopart.com:443/UPJ1V101MPD-Nichicon-datasheet-8324349.pdf?src-supplier=Future+Electronics; ComponentLink4Description: https://datasheet.octopart.com:443/UPJ1V101MPD-Nichicon-datasheet-8324349.pdf?src-supplier=Future+Electronics; ComponentLink5URL: https://datasheet.octopart.com:443/UPJ1V101MPD-Nichicon-datasheet-137928431.pdf?src-supplier=TME; ComponentLink5Description: https://datasheet.octopart.com:443/UPJ1V101MPD-Nichicon-datasheet-137928431.pdf?src-supplier=TME; ComponentLink6URL: https://datasheet.octopart.com:443/UPJ1V101MPD-Nichicon-datasheet-62047996.pdf?src-supplier=Newark; ComponentLink6Description: https://datasheet.octopart.com:443/UPJ1V101MPD-Nichicon-datasheet-62047996.pdf?src-supplier=Newark; ComponentLink7URL: https://datasheet.octopart.com:443/UPJ1V101MPD-Nichicon-datasheet-12551645.pdf?src-supplier=Newark; ComponentLink7Description: https://datasheet.octopart.com:443/UPJ1V101MPD-Nichicon-datasheet-12551645.pdf?src-supplier=Newark
footprint UPJ1V101MPD (electrolytic capacitor, 100uF, 35v)

## UPW1V222MHD6
designator C1
Radial Can ALUMINUM ELECTROLYTIC CAPACITOR UPW 35V 2200muF ±20% 0.709Dia 18.00mm; Manufacturer: KYOCERA AVX; Manufacturer Part Number: UPW1V222MHD6; Value: 2.2mF; Dielectric Material: Aluminium; Dissipation Factor: 0.12%; ESR (Equivalent Series Resistance): 40mΩ; Impedance: 20mΩ; Lead Diameter: 800µm; Leakage Current: 2.31mA; Life (Hours): 8000hours; Polarity: Polar; Ripple Current: 2.329A; Ripple Current (AC): 2.74A; Supplier: Future Electronics; Supplier Part Number: UPW1V222MHD6; RoHS: Compliant; Category: Aluminum Electrolytic Capacitors; Stock: 2692; Pricing: 20=1.07, 50=1.06, 150=1.04, 1000=1.01 (USD); Case/Package: Radial; China RoHS: Compliant; Contact Plating: Tin; Country of Origin: Japan; Diameter: 18mm; Export Control Classification Number (ECCN) Code: EAR99; Height: 25mm; Height - Seated (Max): 24.9936mm; Harmonized Tariff Schedule (HTS) Code: 8532.22.00; Introduction Date: 2004-09-22; Lead Free: Lead Free; Lead Pitch: 7.493mm; Length: 25mm; Lifecycle Status: Production; Max Operating Temperature: 105°C; Min Operating Temperature: -55°C; Mounting Technology: PCB, Through Hole; Number of Terminals: 2; Packaging: Bulk; Radiation Hardening: No; Ratings: AEC-Q200; REACH SVHC: No; Schedule B: 8532220020, 8532220020|8532220020|8532220020|8532220020|8532220020; Terminal Pitch: 7.5mm; Termination: Radial; Tolerance: 20%; Voltage: 35V; Voltage Rating: 35V; Voltage Rating (DC): 35V; ComponentLink1URL: https://datasheet.octopart.com:443/UPW1V222MHD6-Nichicon-datasheet-169250483.pdf?src-supplier=Future+Electronics; ComponentLink1Description: https://datasheet.octopart.com:443/UPW1V222MHD6-Nichicon-datasheet-169250483.pdf?src-supplier=Future+Electronics; ComponentLink2URL: https://datasheet.octopart.com:443/UPW1V222MHD6-Nichicon-datasheet-12198544.pdf?src-supplier=Future+Electronics; ComponentLink2Description: https://datasheet.octopart.com:443/UPW1V222MHD6-Nichicon-datasheet-12198544.pdf?src-supplier=Future+Electronics; ComponentLink3URL: https://datasheet.octopart.com:443/UPW1V222MHD6-Nichicon-datasheet-139007252.pdf?src-supplier=Newark; ComponentLink3Description: https://datasheet.octopart.com:443/UPW1V222MHD6-Nichicon-datasheet-139007252.pdf?src-supplier=Newark; ComponentLink4URL: https://datasheet.octopart.com:443/UPW1V222MHD6-Nichicon-datasheet-62308060.pdf?src-supplier=Newark; ComponentLink4Description: https://datasheet.octopart.com:443/UPW1V222MHD6-Nichicon-datasheet-62308060.pdf?src-supplier=Newark; ComponentLink5URL: https://datasheet.octopart.com:443/UPW1V222MHD6-Nichicon-datasheet-41169140.pdf?src-supplier=Newark; ComponentLink5Description: https://datasheet.octopart.com:443/UPW1V222MHD6-Nichicon-datasheet-41169140.pdf?src-supplier=Newark; ComponentLink6URL: https://datasheet.octopart.com:443/UPW1V222MHD6-Nichicon-datasheet-27608243.pdf?src-supplier=TME; ComponentLink6Description: https://datasheet.octopart.com:443/UPW1V222MHD6-Nichicon-datasheet-27608243.pdf?src-supplier=TME; ComponentLink7URL: https://datasheet.octopart.com:443/UPW1V222MHD6-Nichicon-datasheet-8399882.pdf?src-supplier=RS+(Formerly+Allied+Electronics); ComponentLink7Description: https://datasheet.octopart.com:443/UPW1V222MHD6-Nichicon-datasheet-8399882.pdf?src-supplier=RS+(Formerly+Allied+Electronics); ComponentLink8URL: https://datasheet.octopart.com:443/UPW1V222MHD6-Nichicon-datasheet-311.pdf?src-supplier=DigiKey; ComponentLink8Description: https://datasheet.octopart.com:443/UPW1V222MHD6-Nichicon-datasheet-311.pdf?src-supplier=DigiKey
footprint UPW1V222MHD6 (Radial Can ALUMINUM ELECTROLYTIC CAPACITOR UPW 35V 2200muF ±20% 0.709Dia 18.00mm)